# Altium schematic symbol library GP-02 SCHLIB.SchLib: 1 symbol
Pins are listed as number, name and electrical type; pins without a type are passive.

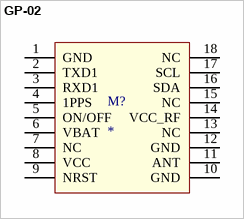
[diagram p0: symbol GP-02]

## GP-02
designator M?
footprint GP-02
pins: 1 GND, 2 TXD1, 3 RXD1, 4 1PPS, 5 ON/OFF, 6 VBAT, 7 NC, 8 VCC, 9 NRST, 10 GND, 11 ANT, 12 GND, 13 NC, 14 VCC_RF, 15 NC, 16 SDA, 17 SCL, 18 NC